# Altium footprint library con-harting-ml.PCBLIB: 41 footprints (part 3 of 3)
Each footprint in its own frame and in the unit in brackets; x right, y up, seen from the top. Pads: shape width x height; smd on the part's side, far side on the other; paste and mask are expansions set on the pad; w line width, h text height; cw(c..) or ccw(c..) is an arc to the next point about the centre after c.
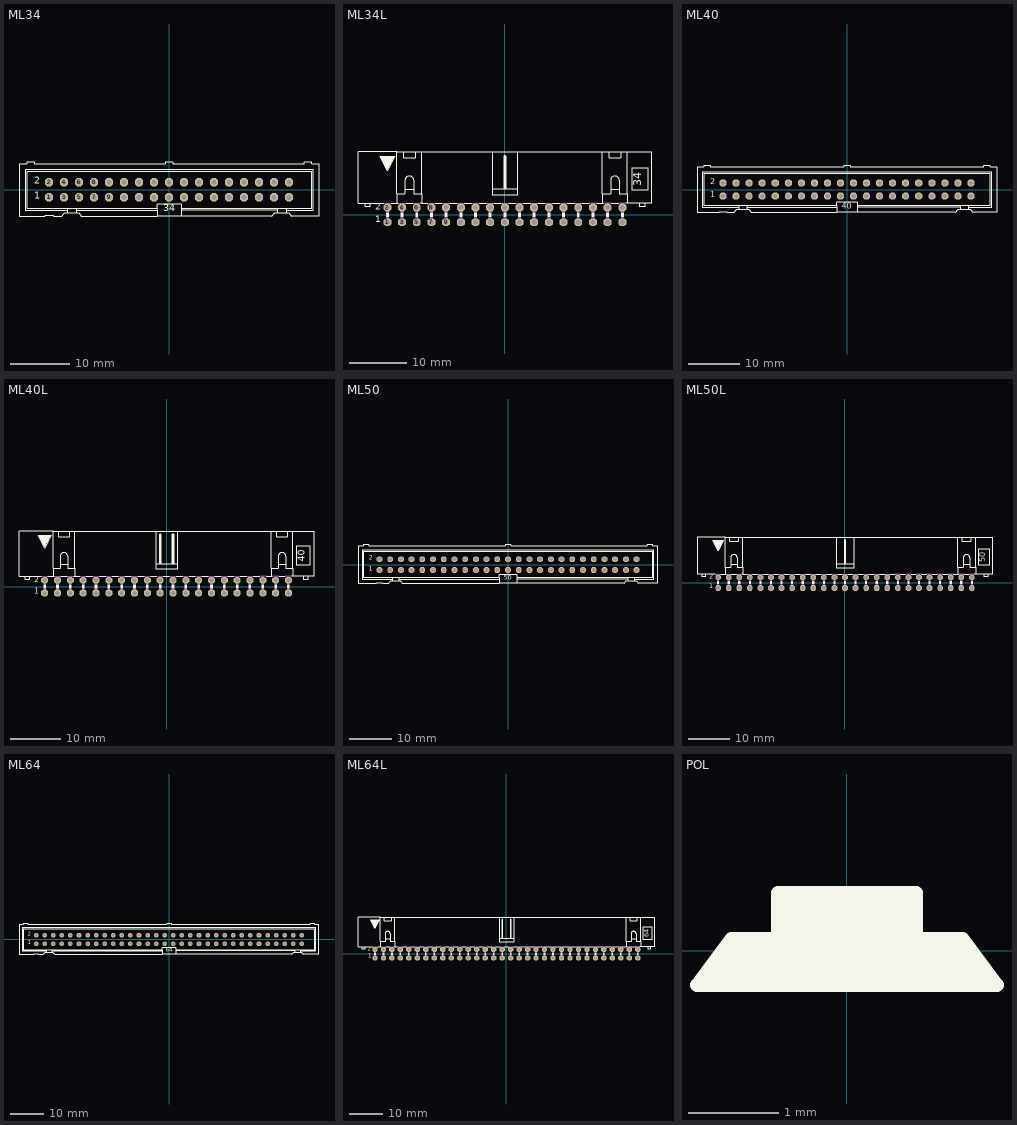
[diagram p2: the footprints below, top view; thin cyan lines are the x and y axes]

## ML34 [mil]
pads (34):
  oct 54x54 hole 36: 1(-800,-50) 2(-800,50) 3(-700,-50) 4(-700,50) 5(-600,-50) 6(-600,50) 7(-500,-50) 8(-500,50) 9(-400,-50) 10(-400,50) 11(-300,-50) 12(-300,50) 13(-200,-50) 14(-200,50) 15(-100,-50) 16(-100,50) 17(0,-50) 18(0,50) 19(100,-50) 20(100,50) 21(200,-50) 22(200,50) 23(300,-50) 24(300,50) 25(400,-50) 26(400,50) 27(500,-50) 28(500,50) 29(600,-50) 30(600,50) 31(700,-50) 32(700,50) 33(800,-50) 34(800,50)
Top Overlay:
  lines w2: -680,-135 -960,-135 -960,135 960,135 960,-135 780,-135 ; -620,-135 -80,-135 ; 80,-135 720,-135
  lines w6: -680,-155 -680,-135 -680,-125 ; -680,-155 -620,-155 ; -680,-155 -700,-155 -715,-175 -770,-175 -770,-170 -830,-170 -830,-175 -1000,-175 -1000,175 -950,175 -950,185 -900,185 -900,175 -25,175 -25,185 25,185 25,175 900,175 900,185 950,185 950,175 1000,175 1000,-175 815,-175 800,-155 780,-155 ; -680,-125 -950,-125 -950,125 950,125 950,-125 780,-125 ; -680,-125 -620,-125 ; -620,-155 -620,-135 -620,-125 ; -620,-155 -600,-155 -585,-175 -80,-175 ; -620,-125 -80,-125 ; -80,-175 80,-175 ; -80,-175 -80,-135 -80,-125 ; -80,-125 -80,-95 80,-95 80,-125 ; 80,-175 685,-175 700,-155 720,-155 ; 80,-175 80,-135 80,-125 ; 80,-125 720,-125 ; 720,-155 720,-135 720,-125 ; 720,-155 780,-155 ; 720,-125 780,-125 ; 780,-155 780,-135 780,-125
  text "1" at -900,-75 h77.5
  text "2" at -900,25 h77.5
  text "34" at -40,-160 h77.5
Mechanical 16:
  rectangle: 390,40 410,60
  rectangle: 390,-60 410,-40
  rectangle: 290,40 310,60
  rectangle: -110,40 -90,60
  rectangle: -110,-60 -90,-40
  rectangle: 290,-60 310,-40
  rectangle: -710,40 -690,60
  rectangle: -810,40 -790,60
  rectangle: -610,40 -590,60
  rectangle: -210,40 -190,60
  rectangle: -310,40 -290,60
  rectangle: -710,-60 -690,-40
  rectangle: -810,-60 -790,-40
  rectangle: -610,-60 -590,-40
  rectangle: -210,-60 -190,-40
  rectangle: -310,-60 -290,-40
  rectangle: -510,-60 -490,-40
  rectangle: -510,40 -490,60
  rectangle: 190,40 210,60
  rectangle: 190,-60 210,-40
  rectangle: -410,40 -390,60
  rectangle: -410,-60 -390,-40
  rectangle: -10,40 10,60
  rectangle: 90,40 110,60
  rectangle: -10,-60 10,-40
  rectangle: 90,-60 110,-40
  rectangle: 490,40 510,60
  rectangle: 590,40 610,60
  rectangle: 690,40 710,60
  rectangle: 790,40 810,60
  rectangle: 490,-60 510,-40
  rectangle: 590,-60 610,-40
  rectangle: 690,-60 710,-40
  rectangle: 790,-60 810,-40

## ML34L [mil]
pads (34):
  oct 54x54 hole 36: 1(-800,-50) 2(-800,50) 3(-700,-50) 4(-700,50) 5(-600,-50) 6(-600,50) 7(-500,-50) 8(-500,50) 9(-400,-50) 10(-400,50) 11(-300,-50) 12(-300,50) 13(-200,-50) 14(-200,50) 15(-100,-50) 16(-100,50) 17(0,-50) 18(0,50) 19(100,-50) 20(100,50) 21(200,-50) 22(200,50) 23(300,-50) 24(300,50) 25(400,-50) 26(400,50) 27(500,-50) 28(500,50) 29(600,-50) 30(600,50) 31(700,-50) 32(700,50) 33(800,-50) 34(800,50)
Top Overlay:
  rectangle: -845,380 -755,400
  rectangle: -835,360 -765,380
  rectangle: -825,340 -775,360
  rectangle: -815,320 -785,340
  rectangle: -805,310 -795,320
  rectangle: -10,175 10,405
  rectangle: -810,-15 -790,15
  rectangle: -710,-15 -690,15
  rectangle: -610,-15 -590,15
  rectangle: -510,-15 -490,15
  rectangle: -410,-15 -390,15
  rectangle: -310,-15 -290,15
  rectangle: -210,-15 -190,15
  rectangle: -110,-15 -90,15
  rectangle: -10,-15 10,15
  rectangle: 90,-15 110,15
  rectangle: 190,-15 210,15
  rectangle: 290,-15 310,15
  rectangle: 390,-15 410,15
  rectangle: 490,-15 510,15
  rectangle: 590,-15 610,15
  rectangle: 690,-15 710,15
  rectangle: 790,-15 810,15
  lines w6: -825,80 -915,80 ; -775,80 -735,80 ; -725,80 -735,80 ; -675,80 -625,80 ; -575,80 -565,80 ; -525,80 -565,80 ; -475,80 -425,80 ; -375,80 -325,80 ; -275,80 -225,80 ; -175,80 -125,80 ; -75,80 -25,80 ; 0,395 0,405 ; 25,80 75,80 ; 125,80 175,80 ; 225,80 275,80 ; 325,80 375,80 ; 425,80 475,80 ; 525,80 575,80 ; 625,80 665,80 ; 675,80 665,80 ; 710,430 710,390 790,390 790,430 ; 725,80 775,80 ; 825,80 835,80 ; 835,430 835,145 ; -955,80 -1000,80 -1000,430 -735,430 ; -955,80 -915,80 ; -955,80 -955,55 -915,55 -915,80 ; -735,80 -735,145 ; -735,145 -735,430 ; -735,145 -680,145 -680,175 ; -735,430 -690,430 ; -690,430 -690,390 -610,390 -610,430 ; -690,430 -610,430 ; -680,175 -620,175 ; -680,175 -680,235 cw(c-650,235) -620,235 -620,175 ; -620,175 -620,145 -565,145 ; -610,430 -565,430 ; -565,80 -565,145 ; -565,145 -565,430 ; -565,430 -85,430 ; -85,175 -85,430 ; -85,175 85,175 ; -85,175 -85,135 85,135 85,175 ; -85,430 85,430 ; 85,175 85,430 ; 85,430 665,430 ; 665,80 665,145 ; 665,145 720,145 720,175 ; 665,145 665,430 ; 665,430 1000,430 1000,80 955,80 ; 720,175 720,235 cw(c750,235) 780,235 780,175 ; 720,175 780,175 ; 780,175 780,145 835,145 ; 835,80 835,145 ; 835,80 915,80 ; 915,80 955,80 ; 915,80 915,55 955,55 955,80 ; -850,400 -750,400 -800,300 -850,400 ; 865,170 975,170 975,320 865,320 865,170
  text "1" at -882,-66 h77.5
  text "2" at -883,19 h77.5
  text "34" at 950,195 h93
Mechanical 16:
  rectangle: -810,15 -790,80
  rectangle: -810,-60 -790,-15
  rectangle: -710,15 -690,80
  rectangle: -710,-60 -690,-15
  rectangle: -610,15 -590,80
  rectangle: -610,-60 -590,-15
  rectangle: -510,15 -490,80
  rectangle: -510,-60 -490,-15
  rectangle: -410,15 -390,80
  rectangle: -410,-60 -390,-15
  rectangle: -310,15 -290,80
  rectangle: -310,-60 -290,-15
  rectangle: -210,15 -190,80
  rectangle: -210,-60 -190,-15
  rectangle: -110,15 -90,80
  rectangle: -110,-60 -90,-15
  rectangle: -10,15 10,80
  rectangle: -10,-60 10,-15
  rectangle: 90,15 110,80
  rectangle: 90,-60 110,-15
  rectangle: 190,15 210,80
  rectangle: 190,-60 210,-15
  rectangle: 290,15 310,80
  rectangle: 290,-60 310,-15
  rectangle: 390,15 410,80
  rectangle: 390,-60 410,-15
  rectangle: 490,15 510,80
  rectangle: 490,-60 510,-15
  rectangle: 590,15 610,80
  rectangle: 590,-60 610,-15
  rectangle: 690,15 710,80
  rectangle: 690,-60 710,-15
  rectangle: 790,15 810,80
  rectangle: 790,-60 810,-15
  lines w6: -825,80 -775,80 ; -725,80 -675,80 ; -625,80 -575,80 ; -525,80 -475,80 ; -425,80 -375,80 ; -325,80 -275,80 ; -225,80 -175,80 ; -125,80 -75,80 ; -25,80 25,80 ; 75,80 125,80 ; 175,80 225,80 ; 275,80 325,80 ; 375,80 425,80 ; 475,80 525,80 ; 575,80 625,80 ; 675,80 725,80 ; 775,80 825,80

## ML40 [mil]
pads (40):
  oct 54x54 hole 36: 1(-950,-50) 2(-950,50) 3(-850,-50) 4(-850,50) 5(-750,-50) 6(-750,50) 7(-650,-50) 8(-650,50) 9(-550,-50) 10(-550,50) 11(-450,-50) 12(-450,50) 13(-350,-50) 14(-350,50) 15(-250,-50) 16(-250,50) 17(-150,-50) 18(-150,50) 19(-50,-50) 20(-50,50) 21(50,-50) 22(50,50) 23(150,-50) 24(150,50) 25(250,-50) 26(250,50) 27(350,-50) 28(350,50) 29(450,-50) 30(450,50) 31(550,-50) 32(550,50) 33(650,-50) 34(650,50) 35(750,-50) 36(750,50) 37(850,-50) 38(850,50) 39(950,-50) 40(950,50)
Top Overlay:
  lines w2: -830,-135 -1110,-135 -1110,135 1110,135 1110,-135 930,-135 ; -770,-135 -80,-135 ; 80,-135 870,-135
  lines w6: -830,-155 -830,-135 -830,-125 ; -830,-155 -770,-155 ; -830,-155 -850,-155 -865,-175 -920,-175 -920,-170 -980,-170 -980,-175 -1150,-175 -1150,175 -1100,175 -1100,185 -1050,185 -1050,175 -25,175 -25,185 25,185 25,175 1050,175 1050,185 1100,185 1100,175 1150,175 1150,-175 965,-175 950,-155 930,-155 ; -830,-125 -1100,-125 -1100,125 1100,125 1100,-125 930,-125 ; -830,-125 -770,-125 ; -770,-155 -770,-135 -770,-125 ; -770,-155 -750,-155 -735,-175 -80,-175 ; -770,-125 -80,-125 ; -80,-175 80,-175 ; -80,-175 -80,-135 -80,-125 ; -80,-125 -80,-95 80,-95 80,-125 ; 80,-175 835,-175 850,-155 870,-155 ; 80,-175 80,-135 80,-125 ; 80,-125 870,-125 ; 870,-155 870,-135 870,-125 ; 870,-155 930,-155 ; 870,-125 930,-125 ; 930,-155 930,-135 930,-125
  text "1" at -1050,-75 h77.5
  text "2" at -1050,25 h77.5
  text "40" at -40,-160 h77.5
Mechanical 16:
  rectangle: 240,40 260,60
  rectangle: 240,-60 260,-40
  rectangle: 140,40 160,60
  rectangle: -260,40 -240,60
  rectangle: -260,-60 -240,-40
  rectangle: 140,-60 160,-40
  rectangle: -860,40 -840,60
  rectangle: -960,40 -940,60
  rectangle: -760,40 -740,60
  rectangle: -360,40 -340,60
  rectangle: -460,40 -440,60
  rectangle: -860,-60 -840,-40
  rectangle: -960,-60 -940,-40
  rectangle: -760,-60 -740,-40
  rectangle: -360,-60 -340,-40
  rectangle: -460,-60 -440,-40
  rectangle: -660,-60 -640,-40
  rectangle: -660,40 -640,60
  rectangle: 40,40 60,60
  rectangle: 40,-60 60,-40
  rectangle: -560,40 -540,60
  rectangle: -560,-60 -540,-40
  rectangle: -160,40 -140,60
  rectangle: -60,40 -40,60
  rectangle: -160,-60 -140,-40
  rectangle: -60,-60 -40,-40
  rectangle: 340,40 360,60
  rectangle: 440,40 460,60
  rectangle: 840,40 860,60
  rectangle: 940,40 960,60
  rectangle: 340,-60 360,-40
  rectangle: 440,-60 460,-40
  rectangle: 840,-60 860,-40
  rectangle: 940,-60 960,-40
  rectangle: 540,40 560,60
  rectangle: 640,40 660,60
  rectangle: 740,40 760,60
  rectangle: 540,-60 560,-40
  rectangle: 640,-60 660,-40
  rectangle: 740,-60 760,-40

## ML40L [mil]
pads (40):
  oct 54x54 hole 36: 1(-950,-50) 2(-950,50) 3(-850,-50) 4(-850,50) 5(-750,-50) 6(-750,50) 7(-650,-50) 8(-650,50) 9(-550,-50) 10(-550,50) 11(-450,-50) 12(-450,50) 13(-350,-50) 14(-350,50) 15(-250,-50) 16(-250,50) 17(-150,-50) 18(-150,50) 19(-50,-50) 20(-50,50) 21(50,-50) 22(50,50) 23(150,-50) 24(150,50) 25(250,-50) 26(250,50) 27(350,-50) 28(350,50) 29(450,-50) 30(450,50) 31(550,-50) 32(550,50) 33(650,-50) 34(650,50) 35(750,-50) 36(750,50) 37(850,-50) 38(850,50) 39(950,-50) 40(950,50)
Top Overlay:
  rectangle: 40,175 60,405
  rectangle: -995,380 -905,400
  rectangle: -985,360 -915,380
  rectangle: -975,340 -925,360
  rectangle: -965,320 -935,340
  rectangle: -955,310 -945,320
  rectangle: -60,175 -40,405
  rectangle: -960,-15 -940,15
  rectangle: -860,-15 -840,15
  rectangle: -760,-15 -740,15
  rectangle: -660,-15 -640,15
  rectangle: -560,-15 -540,15
  rectangle: -460,-15 -440,15
  rectangle: -360,-15 -340,15
  rectangle: -260,-15 -240,15
  rectangle: -160,-15 -140,15
  rectangle: -60,-15 -40,15
  rectangle: 40,-15 60,15
  rectangle: 140,-15 160,15
  rectangle: 240,-15 260,15
  rectangle: 340,-15 360,15
  rectangle: 440,-15 460,15
  rectangle: 540,-15 560,15
  rectangle: 640,-15 660,15
  rectangle: 740,-15 760,15
  rectangle: 840,-15 860,15
  rectangle: 940,-15 960,15
  lines w6: -975,80 -1065,80 ; -925,80 -885,80 ; -875,80 -885,80 ; -825,80 -775,80 ; -725,80 -715,80 ; -675,80 -715,80 ; -625,80 -575,80 ; -525,80 -475,80 ; -425,80 -375,80 ; -325,80 -275,80 ; -225,80 -175,80 ; -125,80 -75,80 ; -25,80 25,80 ; 75,80 125,80 ; 175,80 225,80 ; 275,80 325,80 ; 375,80 425,80 ; 475,80 525,80 ; 575,80 625,80 ; 675,80 725,80 ; 775,80 815,80 ; 825,80 815,80 ; 860,430 860,390 940,390 940,430 ; 875,80 925,80 ; 975,80 985,80 ; 985,430 985,145 ; -1105,80 -1150,80 -1150,430 -885,430 ; -1105,80 -1065,80 ; -1105,80 -1105,55 -1065,55 -1065,80 ; -885,80 -885,145 ; -885,145 -885,430 ; -885,145 -830,145 -830,175 ; -885,430 -840,430 ; -840,430 -840,390 -760,390 -760,430 ; -840,430 -760,430 ; -830,175 -770,175 ; -830,175 -830,235 cw(c-800,235) -770,235 -770,175 ; -770,175 -770,145 -715,145 ; -760,430 -715,430 ; -715,80 -715,145 ; -715,145 -715,430 ; -715,430 -85,430 ; -85,175 -85,430 ; -85,175 85,175 ; -85,175 -85,135 85,135 85,175 ; -85,430 85,430 ; 85,175 85,430 ; 85,430 815,430 ; 815,80 815,145 ; 815,145 870,145 870,175 ; 815,145 815,430 ; 815,430 1150,430 1150,80 1105,80 ; 870,175 870,235 cw(c900,235) 930,235 930,175 ; 870,175 930,175 ; 930,175 930,145 985,145 ; 985,80 985,145 ; 985,80 1065,80 ; 1065,80 1105,80 ; 1065,80 1065,55 1105,55 1105,80 ; -1000,400 -900,400 -950,300 -1000,400 ; 1010,170 1120,170 1120,320 1010,320 1010,170
  lines w20: -50,395 -50,405 ; 50,395 50,405
  text "1" at -1032,-71 h77.5
  text "2" at -1033,19 h77.5
  text "40" at 1095,195 h93
Mechanical 16:
  rectangle: -960,15 -940,80
  rectangle: -960,-60 -940,-15
  rectangle: -860,15 -840,80
  rectangle: -860,-60 -840,-15
  rectangle: -760,15 -740,80
  rectangle: -760,-60 -740,-15
  rectangle: -660,15 -640,80
  rectangle: -660,-60 -640,-15
  rectangle: -560,15 -540,80
  rectangle: -560,-60 -540,-15
  rectangle: -460,15 -440,80
  rectangle: -460,-60 -440,-15
  rectangle: -360,15 -340,80
  rectangle: -360,-60 -340,-15
  rectangle: -260,15 -240,80
  rectangle: -260,-60 -240,-15
  rectangle: -160,15 -140,80
  rectangle: -160,-60 -140,-15
  rectangle: -60,15 -40,80
  rectangle: -60,-60 -40,-15
  rectangle: 40,15 60,80
  rectangle: 40,-60 60,-15
  rectangle: 140,15 160,80
  rectangle: 140,-60 160,-15
  rectangle: 240,15 260,80
  rectangle: 240,-60 260,-15
  rectangle: 340,15 360,80
  rectangle: 340,-60 360,-15
  rectangle: 440,15 460,80
  rectangle: 440,-60 460,-15
  rectangle: 540,15 560,80
  rectangle: 540,-60 560,-15
  rectangle: 640,15 660,80
  rectangle: 640,-60 660,-15
  rectangle: 740,15 760,80
  rectangle: 740,-60 760,-15
  rectangle: 840,15 860,80
  rectangle: 840,-60 860,-15
  rectangle: 940,15 960,80
  rectangle: 940,-60 960,-15
  lines w6: -975,80 -925,80 ; -875,80 -825,80 ; -775,80 -725,80 ; -675,80 -625,80 ; -575,80 -525,80 ; -475,80 -425,80 ; -375,80 -325,80 ; -275,80 -225,80 ; -175,80 -125,80 ; -75,80 -25,80 ; 25,80 75,80 ; 125,80 175,80 ; 225,80 275,80 ; 325,80 375,80 ; 425,80 475,80 ; 525,80 575,80 ; 625,80 675,80 ; 725,80 775,80 ; 825,80 875,80 ; 925,80 975,80

## ML50 [mil]
pads (50):
  oct 54x54 hole 36: 1(-1200,-50) 2(-1200,50) 3(-1100,-50) 4(-1100,50) 5(-1000,-50) 6(-1000,50) 7(-900,-50) 8(-900,50) 9(-800,-50) 10(-800,50) 11(-700,-50) 12(-700,50) 13(-600,-50) 14(-600,50) 15(-500,-50) 16(-500,50) 17(-400,-50) 18(-400,50) 19(-300,-50) 20(-300,50) 21(-200,-50) 22(-200,50) 23(-100,-50) 24(-100,50) 25(0,-50) 26(0,50) 27(100,-50) 28(100,50) 29(200,-50) 30(200,50) 31(300,-50) 32(300,50) 33(400,-50) 34(400,50) 35(500,-50) 36(500,50) 37(600,-50) 38(600,50) 39(700,-50) 40(700,50) 41(800,-50) 42(800,50) 43(900,-50) 44(900,50) 45(1000,-50) 46(1000,50) 47(1100,-50) 48(1100,50) 49(1200,-50) 50(1200,50)
Top Overlay:
  lines w2: -1080,-135 -1360,-135 -1360,135 1360,135 1360,-135 1180,-135 ; -1020,-135 -80,-135 ; 80,-135 1120,-135
  lines w6: -1080,-155 -1080,-135 -1080,-125 ; -1080,-155 -1020,-155 ; -1080,-155 -1100,-155 -1115,-175 -1170,-175 -1170,-170 -1230,-170 -1230,-175 -1400,-175 -1400,175 -1350,175 -1350,185 -1300,185 -1300,175 -25,175 -25,185 25,185 25,175 1300,175 1300,185 1350,185 1350,175 1400,175 1400,-175 1215,-175 1200,-155 1180,-155 ; -1080,-125 -1350,-125 -1350,125 1350,125 1350,-125 1180,-125 ; -1080,-125 -1020,-125 ; -1020,-155 -1020,-135 -1020,-125 ; -1020,-155 -1000,-155 -985,-175 -80,-175 ; -1020,-125 -80,-125 ; -80,-175 80,-175 ; -80,-175 -80,-135 -80,-125 ; -80,-125 -80,-95 80,-95 80,-125 ; 80,-175 1085,-175 1100,-155 1120,-155 ; 80,-175 80,-135 80,-125 ; 80,-125 1120,-125 ; 1120,-155 1120,-135 1120,-125 ; 1120,-155 1180,-155 ; 1120,-125 1180,-125 ; 1180,-155 1180,-135 1180,-125
  text "1" at -1300,-75 h77.5
  text "2" at -1300,25 h77.5
  text "50" at -40,-160 h77.5
Mechanical 16:
  rectangle: -10,40 10,60
  rectangle: -10,-60 10,-40
  rectangle: -110,40 -90,60
  rectangle: -510,40 -490,60
  rectangle: -510,-60 -490,-40
  rectangle: -110,-60 -90,-40
  rectangle: -1110,40 -1090,60
  rectangle: -1210,40 -1190,60
  rectangle: -1010,40 -990,60
  rectangle: -610,40 -590,60
  rectangle: -710,40 -690,60
  rectangle: -1110,-60 -1090,-40
  rectangle: -1210,-60 -1190,-40
  rectangle: -1010,-60 -990,-40
  rectangle: -610,-60 -590,-40
  rectangle: -710,-60 -690,-40
  rectangle: -910,-60 -890,-40
  rectangle: -910,40 -890,60
  rectangle: -210,40 -190,60
  rectangle: -210,-60 -190,-40
  rectangle: -810,40 -790,60
  rectangle: -810,-60 -790,-40
  rectangle: -410,40 -390,60
  rectangle: -310,40 -290,60
  rectangle: -410,-60 -390,-40
  rectangle: -310,-60 -290,-40
  rectangle: 90,40 110,60
  rectangle: 190,40 210,60
  rectangle: 590,40 610,60
  rectangle: 690,40 710,60
  rectangle: 90,-60 110,-40
  rectangle: 190,-60 210,-40
  rectangle: 590,-60 610,-40
  rectangle: 690,-60 710,-40
  rectangle: 290,40 310,60
  rectangle: 390,40 410,60
  rectangle: 490,40 510,60
  rectangle: 290,-60 310,-40
  rectangle: 390,-60 410,-40
  rectangle: 490,-60 510,-40
  rectangle: 790,40 810,60
  rectangle: 890,40 910,60
  rectangle: 990,40 1010,60
  rectangle: 1090,40 1110,60
  rectangle: 1190,40 1210,60
  rectangle: 1190,-60 1210,-40
  rectangle: 790,-60 810,-40
  rectangle: 890,-60 910,-40
  rectangle: 990,-60 1010,-40
  rectangle: 1090,-60 1110,-40

## ML50L [mil]
pads (50):
  oct 54x54 hole 36: 1(-1200,-50) 2(-1200,50) 3(-1100,-50) 4(-1100,50) 5(-1000,-50) 6(-1000,50) 7(-900,-50) 8(-900,50) 9(-800,-50) 10(-800,50) 11(-700,-50) 12(-700,50) 13(-600,-50) 14(-600,50) 15(-500,-50) 16(-500,50) 17(-400,-50) 18(-400,50) 19(-300,-50) 20(-300,50) 21(-200,-50) 22(-200,50) 23(-100,-50) 24(-100,50) 25(0,-50) 26(0,50) 27(100,-50) 28(100,50) 29(200,-50) 30(200,50) 31(300,-50) 32(300,50) 33(400,-50) 34(400,50) 35(500,-50) 36(500,50) 37(600,-50) 38(600,50) 39(700,-50) 40(700,50) 41(800,-50) 42(800,50) 43(900,-50) 44(900,50) 45(1000,-50) 46(1000,50) 47(1100,-50) 48(1100,50) 49(1200,-50) 50(1200,50)
Top Overlay:
  rectangle: -1245,380 -1155,400
  rectangle: -1235,360 -1165,380
  rectangle: -1225,340 -1175,360
  rectangle: -1215,320 -1185,340
  rectangle: -1205,310 -1195,320
  rectangle: -10,175 10,405
  rectangle: -1210,-15 -1190,15
  rectangle: -1110,-15 -1090,15
  rectangle: -1010,-15 -990,15
  rectangle: -910,-15 -890,15
  rectangle: -810,-15 -790,15
  rectangle: -710,-15 -690,15
  rectangle: -610,-15 -590,15
  rectangle: -510,-15 -490,15
  rectangle: -410,-15 -390,15
  rectangle: -310,-15 -290,15
  rectangle: -210,-15 -190,15
  rectangle: -110,-15 -90,15
  rectangle: -10,-15 10,15
  rectangle: 90,-15 110,15
  rectangle: 190,-15 210,15
  rectangle: 290,-15 310,15
  rectangle: 390,-15 410,15
  rectangle: 490,-15 510,15
  rectangle: 590,-15 610,15
  rectangle: 690,-15 710,15
  rectangle: 790,-15 810,15
  rectangle: 890,-15 910,15
  rectangle: 990,-15 1010,15
  rectangle: 1090,-15 1110,15
  rectangle: 1190,-15 1210,15
  lines w6: -1225,80 -1315,80 ; -1175,80 -1135,80 ; -1125,80 -1135,80 ; -1075,80 -1025,80 ; -975,80 -965,80 ; -925,80 -965,80 ; -875,80 -825,80 ; -775,80 -725,80 ; -675,80 -625,80 ; -575,80 -525,80 ; -475,80 -425,80 ; -375,80 -325,80 ; -275,80 -225,80 ; -175,80 -125,80 ; -75,80 -25,80 ; 25,80 75,80 ; 125,80 175,80 ; 225,80 275,80 ; 325,80 375,80 ; 425,80 475,80 ; 525,80 575,80 ; 625,80 675,80 ; 725,80 775,80 ; 825,80 875,80 ; 925,80 975,80 ; 1025,80 1065,80 ; 1075,80 1065,80 ; 1110,430 1110,390 1190,390 1190,430 ; 1125,80 1175,80 ; 1225,80 1235,80 ; 1235,430 1235,145 ; -1355,80 -1315,80 ; -1355,80 -1400,80 -1400,430 -1135,430 ; -1355,80 -1355,55 -1315,55 -1315,80 ; -1135,80 -1135,145 ; -1135,145 -1135,430 ; -1135,145 -1080,145 -1080,175 ; -1135,430 -1090,430 ; -1090,430 -1090,390 -1010,390 -1010,430 ; -1090,430 -1010,430 ; -1080,175 -1020,175 ; -1080,175 -1080,235 cw(c-1050,235) -1020,235 -1020,175 ; -1020,175 -1020,145 -965,145 ; -1010,430 -965,430 ; -965,80 -965,145 ; -965,145 -965,430 ; -965,430 -85,430 ; -85,175 -85,430 ; -85,175 85,175 ; -85,175 -85,135 85,135 85,175 ; -85,430 85,430 ; 85,175 85,430 ; 85,430 1065,430 ; 1065,80 1065,145 ; 1065,145 1120,145 1120,175 ; 1065,145 1065,430 ; 1065,430 1400,430 1400,80 1355,80 ; 1120,175 1120,235 cw(c1150,235) 1180,235 1180,175 ; 1120,175 1180,175 ; 1180,175 1180,145 1235,145 ; 1235,80 1235,145 ; 1235,80 1315,80 ; 1315,80 1355,80 ; 1315,80 1315,55 1355,55 1355,80 ; -1250,400 -1150,400 -1200,300 -1250,400 ; 1260,170 1370,170 1370,320 1260,320 1260,170
  lines w20: 0,395 0,405
  text "1" at -1282,-71 h77.5
  text "2" at -1283,19 h77.5
  text "50" at 1345,195 h93
Mechanical 16:
  rectangle: -1210,15 -1190,80
  rectangle: -1210,-60 -1190,-15
  rectangle: -1110,15 -1090,80
  rectangle: -1110,-60 -1090,-15
  rectangle: -1010,15 -990,80
  rectangle: -1010,-60 -990,-15
  rectangle: -910,15 -890,80
  rectangle: -910,-60 -890,-15
  rectangle: -810,15 -790,80
  rectangle: -810,-60 -790,-15
  rectangle: -710,15 -690,80
  rectangle: -710,-60 -690,-15
  rectangle: -610,15 -590,80
  rectangle: -610,-60 -590,-15
  rectangle: -510,15 -490,80
  rectangle: -510,-60 -490,-15
  rectangle: -410,15 -390,80
  rectangle: -410,-60 -390,-15
  rectangle: -310,15 -290,80
  rectangle: -310,-60 -290,-15
  rectangle: -210,15 -190,80
  rectangle: -210,-60 -190,-15
  rectangle: -110,15 -90,80
  rectangle: -110,-60 -90,-15
  rectangle: -10,15 10,80
  rectangle: -10,-60 10,-15
  rectangle: 90,-60 110,-15
  rectangle: 190,15 210,80
  rectangle: 190,-60 210,-15
  rectangle: 290,15 310,80
  rectangle: 290,-60 310,-15
  rectangle: 390,15 410,80
  rectangle: 390,-60 410,-15
  rectangle: 490,15 510,80
  rectangle: 490,-60 510,-15
  rectangle: 590,15 610,80
  rectangle: 590,-60 610,-15
  rectangle: 690,15 710,80
  rectangle: 690,-60 710,-15
  rectangle: 790,15 810,80
  rectangle: 790,-60 810,-15
  rectangle: 890,15 910,80
  rectangle: 890,-60 910,-15
  rectangle: 990,15 1010,80
  rectangle: 990,-60 1010,-15
  rectangle: 1090,15 1110,80
  rectangle: 1090,-60 1110,-15
  rectangle: 1190,15 1210,80
  rectangle: 1190,-60 1210,-15
  rectangle: 90,15 110,80
  lines w6: -1225,80 -1175,80 ; -1125,80 -1075,80 ; -1025,80 -975,80 ; -925,80 -875,80 ; -825,80 -775,80 ; -725,80 -675,80 ; -625,80 -575,80 ; -525,80 -475,80 ; -425,80 -375,80 ; -325,80 -275,80 ; -225,80 -175,80 ; -125,80 -75,80 ; -25,80 25,80 ; 75,80 125,80 ; 175,80 225,80 ; 275,80 325,80 ; 375,80 425,80 ; 475,80 525,80 ; 575,80 625,80 ; 675,80 725,80 ; 775,80 825,80 ; 875,80 925,80 ; 975,80 1025,80 ; 1075,80 1125,80 ; 1175,80 1225,80

## ML64 [mil]
pads (64):
  oct 54x54 hole 36: 1(-1550,-50) 2(-1550,50) 3(-1450,-50) 4(-1450,50) 5(-1350,-50) 6(-1350,50) 7(-1250,-50) 8(-1250,50) 9(-1150,-50) 10(-1150,50) 11(-1050,-50) 12(-1050,50) 13(-950,-50) 14(-950,50) 15(-850,-50) 16(-850,50) 17(-750,-50) 18(-750,50) 19(-650,-50) 20(-650,50) 21(-550,-50) 22(-550,50) 23(-450,-50) 24(-450,50) 25(-350,-50) 26(-350,50) 27(-250,-50) 28(-250,50) 29(-150,-50) 30(-150,50) 31(-50,-50) 32(-50,50) 33(50,-50) 34(50,50) 35(150,-50) 36(150,50) 37(250,-50) 38(250,50) 39(350,-50) 40(350,50) 41(450,-50) 42(450,50) 43(550,-50) 44(550,50) 45(650,-50) 46(650,50) 47(750,-50) 48(750,50) 49(850,-50) 50(850,50) 51(950,-50) 52(950,50) 53(1050,-50) 54(1050,50) 55(1150,-50) 56(1150,50) 57(1250,-50) 58(1250,50) 59(1350,-50) 60(1350,50) 61(1450,-50) 62(1450,50) 63(1550,-50) 64(1550,50)
Top Overlay:
  lines w2: -1430,-135 -1710,-135 -1710,135 1710,135 1710,-135 1530,-135 ; -1370,-135 -80,-135 ; 80,-135 1470,-135
  lines w6: -1430,-155 -1430,-135 -1430,-125 ; -1430,-155 -1370,-155 ; -1430,-155 -1450,-155 -1465,-175 -1520,-175 -1520,-170 -1580,-170 -1580,-175 -1750,-175 -1750,175 -1700,175 -1700,185 -1650,185 -1650,175 -25,175 -25,185 25,185 25,175 1650,175 1650,185 1700,185 1700,175 1750,175 1750,-175 1565,-175 1550,-155 1530,-155 ; -1430,-125 -1700,-125 -1700,125 1700,125 1700,-125 1530,-125 ; -1430,-125 -1370,-125 ; -1370,-155 -1370,-135 -1370,-125 ; -1370,-155 -1350,-155 -1335,-175 -80,-175 ; -1370,-125 -80,-125 ; -80,-175 80,-175 ; -80,-175 -80,-135 -80,-125 ; -80,-125 -80,-95 80,-95 80,-125 ; 80,-175 1435,-175 1450,-155 1470,-155 ; 80,-175 80,-135 80,-125 ; 80,-125 1470,-125 ; 1470,-155 1470,-135 1470,-125 ; 1470,-155 1530,-155 ; 1470,-125 1530,-125 ; 1530,-155 1530,-135 1530,-125
  text "1" at -1650,-75 h77.5
  text "2" at -1650,25 h77.5
  text "64" at -40,-160 h77.5
Mechanical 16:
  rectangle: -360,40 -340,60
  rectangle: -360,-60 -340,-40
  rectangle: -460,40 -440,60
  rectangle: -860,40 -840,60
  rectangle: -860,-60 -840,-40
  rectangle: -460,-60 -440,-40
  rectangle: -1460,40 -1440,60
  rectangle: -1560,40 -1540,60
  rectangle: -1360,40 -1340,60
  rectangle: -960,40 -940,60
  rectangle: -1060,40 -1040,60
  rectangle: -1460,-60 -1440,-40
  rectangle: -1560,-60 -1540,-40
  rectangle: -1360,-60 -1340,-40
  rectangle: -960,-60 -940,-40
  rectangle: -1060,-60 -1040,-40
  rectangle: -1260,-60 -1240,-40
  rectangle: -1260,40 -1240,60
  rectangle: -560,40 -540,60
  rectangle: -560,-60 -540,-40
  rectangle: -1160,40 -1140,60
  rectangle: -1160,-60 -1140,-40
  rectangle: -760,40 -740,60
  rectangle: -660,40 -640,60
  rectangle: -760,-60 -740,-40
  rectangle: -660,-60 -640,-40
  rectangle: -260,40 -240,60
  rectangle: -160,40 -140,60
  rectangle: 240,40 260,60
  rectangle: 340,40 360,60
  rectangle: -260,-60 -240,-40
  rectangle: -160,-60 -140,-40
  rectangle: 240,-60 260,-40
  rectangle: 340,-60 360,-40
  rectangle: -60,40 -40,60
  rectangle: 40,40 60,60
  rectangle: 140,40 160,60
  rectangle: -60,-60 -40,-40
  rectangle: 40,-60 60,-40
  rectangle: 140,-60 160,-40
  rectangle: 440,40 460,60
  rectangle: 540,40 560,60
  rectangle: 640,40 660,60
  rectangle: 740,40 760,60
  rectangle: 840,40 860,60
  rectangle: 840,-60 860,-40
  rectangle: 440,-60 460,-40
  rectangle: 540,-60 560,-40
  rectangle: 640,-60 660,-40
  rectangle: 740,-60 760,-40
  rectangle: 940,-60 960,-40
  rectangle: 1040,-60 1060,-40
  rectangle: 1140,-60 1160,-40
  rectangle: 1240,-60 1260,-40
  rectangle: 940,40 960,60
  rectangle: 1040,40 1060,60
  rectangle: 1140,40 1160,60
  rectangle: 1240,40 1260,60
  rectangle: 1340,40 1360,60
  rectangle: 1340,-60 1360,-40
  rectangle: 1440,-60 1460,-40
  rectangle: 1540,-60 1560,-40
  rectangle: 1440,40 1460,60
  rectangle: 1540,40 1560,60

## ML64L [mil]
pads (64):
  oct 63x63 hole 36: 1(-1550,-50) 2(-1550,50) 3(-1450,-50) 4(-1450,50) 5(-1350,-50) 6(-1350,50) 7(-1250,-50) 8(-1250,50) 9(-1150,-50) 10(-1150,50) 11(-1050,-50) 12(-1050,50) 13(-950,-50) 14(-950,50) 15(-850,-50) 16(-850,50) 17(-750,-50) 18(-750,50) 19(-650,-50) 20(-650,50) 21(-550,-50) 22(-550,50) 23(-450,-50) 24(-450,50) 25(-350,-50) 26(-350,50) 27(-250,-50) 28(-250,50) 29(-150,-50) 30(-150,50) 31(-50,-50) 32(-50,50) 33(50,-50) 34(50,50) 35(150,-50) 36(150,50) 37(250,-50) 38(250,50) 39(350,-50) 40(350,50) 41(450,-50) 42(450,50) 43(550,-50) 44(550,50) 45(650,-50) 46(650,50) 47(750,-50) 48(750,50) 49(850,-50) 50(850,50) 51(950,-50) 52(950,50) 53(1050,-50) 54(1050,50) 55(1150,-50) 56(1150,50) 57(1250,-50) 58(1250,50) 59(1350,-50) 60(1350,50) 61(1450,-50) 62(1450,50) 63(1550,-50) 64(1550,50)
Top Overlay:
  rectangle: 40,175 60,405
  rectangle: -1595,380 -1505,400
  rectangle: -1585,360 -1515,380
  rectangle: -1575,340 -1525,360
  rectangle: -1565,320 -1535,340
  rectangle: -1555,310 -1545,320
  rectangle: -60,175 -40,405
  rectangle: -1560,-15 -1540,15
  rectangle: -1460,-15 -1440,15
  rectangle: -1360,-15 -1340,15
  rectangle: -1260,-15 -1240,15
  rectangle: -1160,-15 -1140,15
  rectangle: -1060,-15 -1040,15
  rectangle: -960,-15 -940,15
  rectangle: -860,-15 -840,15
  rectangle: -760,-15 -740,15
  rectangle: -660,-15 -640,15
  rectangle: -560,-15 -540,15
  rectangle: -460,-15 -440,15
  rectangle: -360,-15 -340,15
  rectangle: -260,-15 -240,15
  rectangle: -160,-15 -140,15
  rectangle: -60,-15 -40,15
  rectangle: 40,-15 60,15
  rectangle: 140,-15 160,15
  rectangle: 240,-15 260,15
  rectangle: 340,-15 360,15
  rectangle: 440,-15 460,15
  rectangle: 540,-15 560,15
  rectangle: 640,-15 660,15
  rectangle: 740,-15 760,15
  rectangle: 840,-15 860,15
  rectangle: 940,-15 960,15
  rectangle: 1040,-15 1060,15
  rectangle: 1140,-15 1160,15
  rectangle: 1240,-15 1260,15
  rectangle: 1340,-15 1360,15
  rectangle: 1440,-15 1460,15
  rectangle: 1540,-15 1560,15
  lines w6: -1575,80 -1665,80 ; -1525,80 -1485,80 ; -1475,80 -1485,80 ; -1425,80 -1375,80 ; -1325,80 -1315,80 ; -1275,80 -1315,80 ; -1225,80 -1175,80 ; -1125,80 -1075,80 ; -1025,80 -975,80 ; -925,80 -875,80 ; -825,80 -775,80 ; -725,80 -675,80 ; -625,80 -575,80 ; -525,80 -475,80 ; -425,80 -375,80 ; -325,80 -275,80 ; -225,80 -175,80 ; -125,80 -75,80 ; -25,80 25,80 ; 75,80 125,80 ; 175,80 225,80 ; 275,80 325,80 ; 375,80 425,80 ; 475,80 525,80 ; 575,80 625,80 ; 675,80 725,80 ; 775,80 825,80 ; 875,80 925,80 ; 975,80 1025,80 ; 1075,80 1125,80 ; 1175,80 1225,80 ; 1275,80 1325,80 ; 1375,80 1415,80 ; 1425,80 1415,80 ; 1460,430 1460,390 1540,390 1540,430 ; 1475,80 1525,80 ; 1575,80 1585,80 ; 1585,430 1585,145 ; -1705,80 -1750,80 -1750,430 -1485,430 ; -1705,80 -1665,80 ; -1705,80 -1705,55 -1665,55 -1665,80 ; -1485,80 -1485,145 ; -1485,145 -1485,430 ; -1485,145 -1430,145 -1430,175 ; -1485,430 -1440,430 ; -1440,430 -1440,390 -1360,390 -1360,430 ; -1440,430 -1360,430 ; -1430,175 -1370,175 ; -1430,175 -1430,235 cw(c-1400,235) -1370,235 -1370,175 ; -1370,175 -1370,145 -1315,145 ; -1360,430 -1315,430 ; -1315,80 -1315,145 ; -1315,145 -1315,430 ; -1315,430 -85,430 ; -85,175 -85,430 ; -85,175 85,175 ; -85,175 -85,135 85,135 85,175 ; -85,430 85,430 ; 85,175 85,430 ; 85,430 1415,430 ; 1415,80 1415,145 ; 1415,145 1470,145 1470,175 ; 1415,145 1415,430 ; 1415,430 1750,430 1750,80 1705,80 ; 1470,175 1470,235 cw(c1500,235) 1530,235 1530,175 ; 1470,175 1530,175 ; 1530,175 1530,145 1585,145 ; 1585,80 1585,145 ; 1585,80 1665,80 ; 1665,80 1705,80 ; 1665,80 1665,55 1705,55 1705,80 ; -1600,400 -1500,400 -1550,300 -1600,400 ; 1610,170 1720,170 1720,320 1610,320 1610,170
  lines w20: -50,395 -50,405 ; 50,395 50,405
  text "1" at -1632,-66 h77.5
  text "2" at -1633,19 h77.5
  text "64" at 1695,195 h93
Mechanical 16:
  rectangle: -1560,15 -1540,80
  rectangle: -1560,-60 -1540,-15
  rectangle: -1460,15 -1440,80
  rectangle: -1460,-60 -1440,-15
  rectangle: -1360,15 -1340,80
  rectangle: -1360,-60 -1340,-15
  rectangle: -1260,15 -1240,80
  rectangle: -1260,-60 -1240,-15
  rectangle: -1160,15 -1140,80
  rectangle: -1160,-60 -1140,-15
  rectangle: -1060,15 -1040,80
  rectangle: -1060,-60 -1040,-15
  rectangle: -960,15 -940,80
  rectangle: -960,-60 -940,-15
  rectangle: -860,15 -840,80
  rectangle: -860,-60 -840,-15
  rectangle: -760,15 -740,80
  rectangle: -760,-60 -740,-15
  rectangle: -660,15 -640,80
  rectangle: -660,-60 -640,-15
  rectangle: -560,15 -540,80
  rectangle: -560,-60 -540,-15
  rectangle: -460,15 -440,80
  rectangle: -460,-60 -440,-15
  rectangle: -360,15 -340,80
  rectangle: -360,-60 -340,-15
  rectangle: -260,15 -240,80
  rectangle: -260,-60 -240,-15
  rectangle: -160,15 -140,80
  rectangle: -160,-60 -140,-15
  rectangle: -60,15 -40,80
  rectangle: -60,-60 -40,-15
  rectangle: 40,15 60,80
  rectangle: 40,-60 60,-15
  rectangle: 140,15 160,80
  rectangle: 140,-60 160,-15
  rectangle: 240,15 260,80
  rectangle: 240,-60 260,-15
  rectangle: 340,15 360,80
  rectangle: 340,-60 360,-15
  rectangle: 440,15 460,80
  rectangle: 440,-60 460,-15
  rectangle: 540,15 560,80
  rectangle: 540,-60 560,-15
  rectangle: 640,15 660,80
  rectangle: 640,-60 660,-15
  rectangle: 740,15 760,80
  rectangle: 740,-60 760,-15
  rectangle: 840,15 860,80
  rectangle: 840,-60 860,-15
  rectangle: 940,15 960,80
  rectangle: 940,-60 960,-15
  rectangle: 1040,15 1060,80
  rectangle: 1040,-60 1060,-15
  rectangle: 1140,15 1160,80
  rectangle: 1140,-60 1160,-15
  rectangle: 1240,15 1260,80
  rectangle: 1240,-60 1260,-15
  rectangle: 1340,15 1360,80
  rectangle: 1340,-60 1360,-15
  rectangle: 1440,15 1460,80
  rectangle: 1440,-60 1460,-15
  rectangle: 1540,15 1560,80
  rectangle: 1540,-60 1560,-15
  lines w6: -1575,80 -1525,80 ; -1475,80 -1425,80 ; -1375,80 -1325,80 ; -1275,80 -1225,80 ; -1175,80 -1125,80 ; -1075,80 -1025,80 ; -975,80 -925,80 ; -875,80 -825,80 ; -775,80 -725,80 ; -675,80 -625,80 ; -575,80 -525,80 ; -475,80 -425,80 ; -375,80 -325,80 ; -275,80 -225,80 ; -175,80 -125,80 ; -75,80 -25,80 ; 25,80 75,80 ; 125,80 175,80 ; 225,80 275,80 ; 325,80 375,80 ; 425,80 475,80 ; 525,80 575,80 ; 625,80 675,80 ; 725,80 775,80 ; 825,80 875,80 ; 925,80 975,80 ; 1025,80 1075,80 ; 1125,80 1175,80 ; 1225,80 1275,80 ; 1325,80 1375,80 ; 1425,80 1475,80 ; 1525,80 1575,80

## POL [mil]
Top Overlay:
  rectangle: -50,-15 50,5
  rectangle: -30,5 30,25
  rectangle: -60,-15 -50,-5
  rectangle: -55,-5 -50,0
  rectangle: 50,-15 60,-5
  rectangle: 50,-5 55,0
  lines w6: -65,-15 -50,5 -30,5 -30,25 30,25 30,5 50,5 65,-15 -65,-15